# EAGLE library part AQS225S (library relay)
PhotoMOS Relay NAiS Source: http://www.mew-europe.com/.. pti_en.pdf
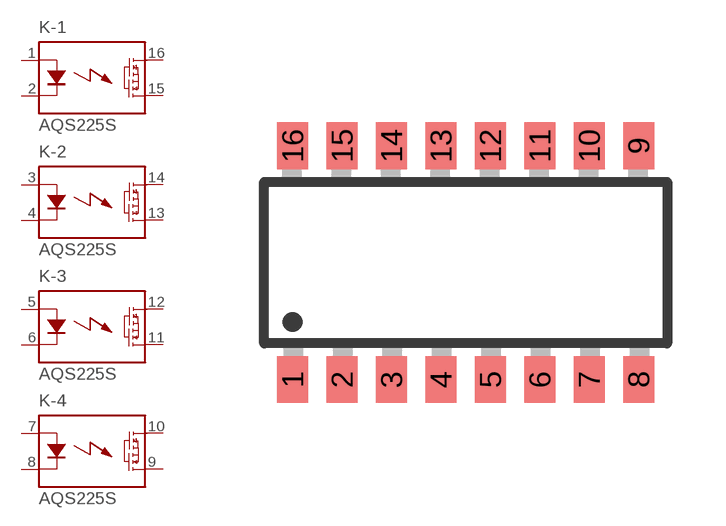
[diagram p0: symbol with the pads of SOP16; footprint SOP16]

Designator prefix K; gates -1=PHOTOMOS_2D -2=PHOTOMOS_2D -3=PHOTOMOS_2D -4=PHOTOMOS_2D

## AQS225S (MF: AROMAT/ MATSUSHITA; MPN: AQS225S; OC_FARNELL: 1448339; OC_NEWARK: 10C3715)  [SOP16]
1  -1:A  pas
2  -1:K  pas
3  -2:A  pas
4  -2:K  pas
5  -3:A  pas
6  -3:K  pas
7  -4:A  pas
8  -4:K  pas
9  -4:DS2  pas
10  -4:DS1  pas
11  -3:DS2  pas
12  -3:DS1  pas
13  -2:DS2  pas
14  -2:DS1  pas
15  -1:DS2  pas
16  -1:DS1  pas

## Footprint SOP16 (pad centres in mm)
SOP 16 - AQS21, AQS22, AQS610TS Series NAiS Source: http://www.mew-europe.com/.. pti_en.pdf
smd 0.8 x 1.2: 1 -4.445,-3; 2 -3.175,-3; 3 -1.905,-3; 4 -0.635,-3; 5 0.635,-3; 6 1.905,-3; 7 3.175,-3; 8 4.445,-3; 9 4.445,3; 10 3.175,3; 11 1.905,3; 12 0.635,3; 13 -0.635,3; 14 -1.905,3; 15 -3.175,3; 16 -4.445,3